# EAGLE library part BR-LE4.0-S3 (library BlueRadios_D2_S2_C46_Eagle_footprint)
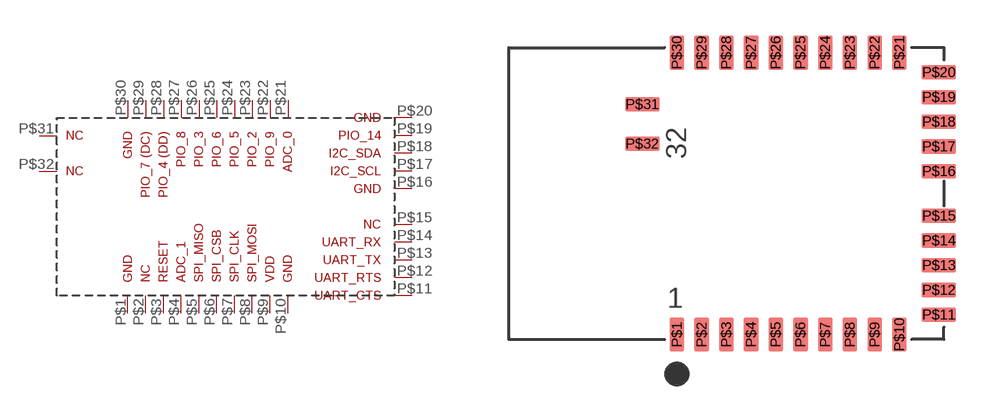
[diagram p0: symbol with the pads of BR-LE4.0-X2A; footprint BR-LE4.0-X2A]

Designator prefix -

## BR-LE4.0-S3  [BR-LE4.0-X2A]
P$1  P$1
P$2  P$2  nc
P$3  P$3
P$4  P$4
P$5  P$5
P$6  P$6
P$7  P$7
P$8  P$8
P$9  P$9
P$10  P$10
P$11  P$11
P$12  P$12
P$13  P$13
P$14  P$14
P$15  P$15  nc
P$16  P$16
P$17  P$17
P$18  P$18
P$19  P$19
P$20  P$20
P$21  P$21
P$22  P$22
P$23  P$23
P$24  P$24
P$25  P$25
P$26  P$26
P$27  P$27
P$28  P$28
P$29  P$29
P$30  P$30
P$31  P$31  nc
P$32  P$32  nc

## Footprint BR-LE4.0-X2A (pad centres in mm)
This footprint can be used with BlueRadios Modules... - BR-C46# - BR-LE4.0-S2# - BR-LE4.0-D2#
smd 0.6 x 1.4: P$1 -2,-5.7; P$2 -1,-5.7; P$3 0,-5.7; P$4 1,-5.7; P$5 2,-5.7; P$6 3,-5.7; P$7 4,-5.7; P$8 5,-5.7; P$9 6,-5.7; P$10 7,-5.7; P$21 7,5.7; P$22 6,5.7; P$23 5,5.7; P$24 4,5.7; P$25 3,5.7; P$26 2,5.7; P$27 1,5.7; P$28 0,5.7; P$29 -1,5.7; P$30 -2,5.7
smd 1.4 x 0.6: P$11 8.6,-4.9; P$12 8.6,-3.9; P$13 8.6,-2.9; P$14 8.6,-1.9; P$15 8.6,-0.9; P$16 8.6,0.9; P$17 8.6,1.9; P$18 8.6,2.9; P$19 8.6,3.9; P$20 8.6,4.9; P$31 -3.401,3.606; P$32 -3.401,2.011